# Altium integrated library DM3AT-SF-PEJM5.IntLib: 1 symbol
Pins are listed as number, name and electrical type; pins without a type are passive.

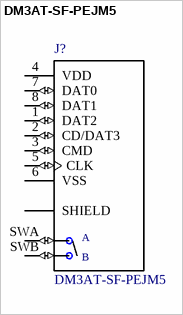
[diagram p0: symbol DM3AT-SF-PEJM5]

## DM3AT-SF-PEJM5
designator J?
DM3 RA SMT microSD memory card push/push; MF: Hirose; SnapEDA_Link: https://www.snapeda.com/parts/DM3AT-SF-PEJM5/Hirose%20Electric%20Co%20Ltd/view-part/?ref=snap; MP: DM3AT-SF-PEJM5; Package: None; Price: None; Availability: Unavailable; Value: *
footprint *HRS_DM3AT-SF-PEJM5_DM3AT-SF-PEJM5(Primary)
pins: 1 DAT2 (io), 2 CD/DAT3 (io), 3 CMD (io), 4 VDD (power), 5 CLK (io), 6 VSS (power), 7 DAT0 (io), 8 DAT1 (io), P1 SHIELD, P2 SHIELD, P3 SHIELD, P4 SHIELD, SWA A (io), SWB B (io)